# Altium footprint library Connector_Phoenix_GMSTB.PcbLib: 88 footprints (part 2 of 6)
Each footprint in its own frame and in the unit in brackets; x right, y up, seen from the top. Pads: shape width x height; smd on the part's side, far side on the other; paste and mask are expansions set on the pad; w line width, h text height; cw(c..) or ccw(c..) is an arc to the next point about the centre after c.
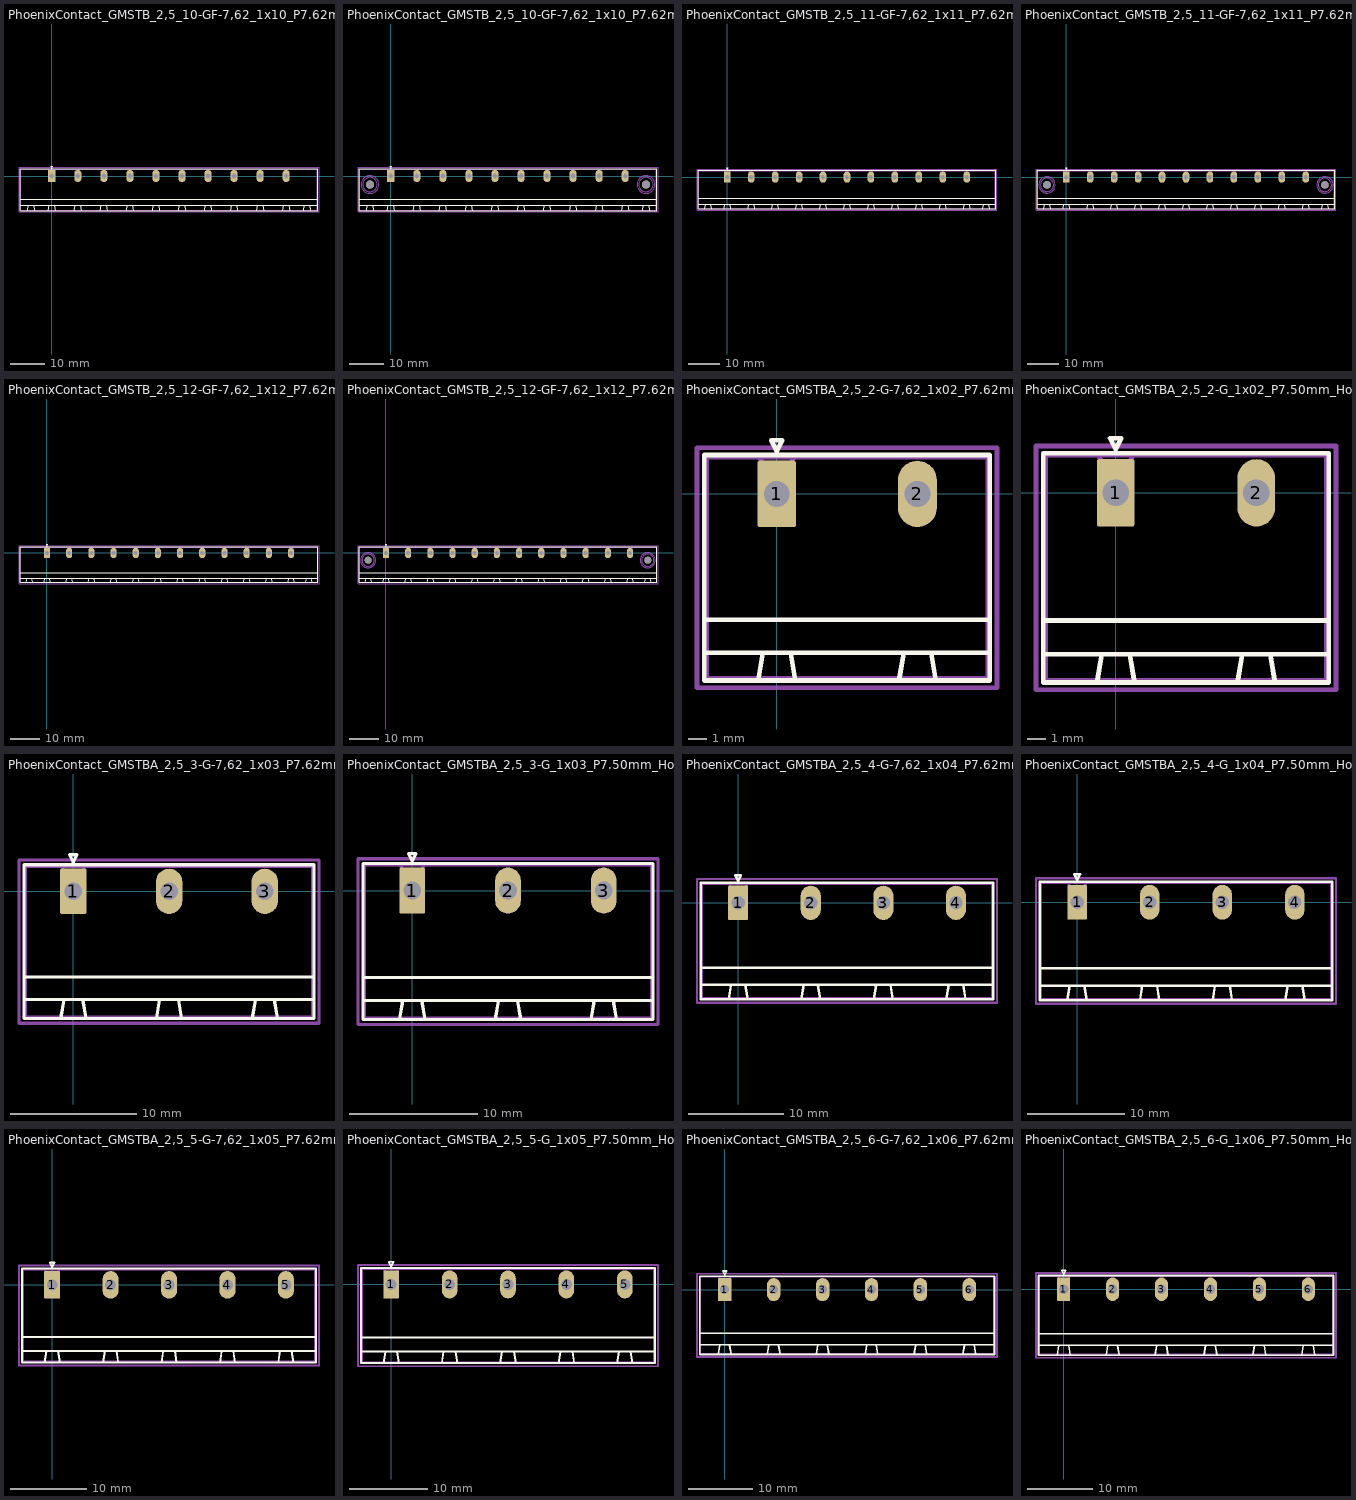
[diagram p1: the footprints below, top view; thin cyan lines are the x and y axes]

## PhoenixContact_GMSTB_2,5_10-GF-7,62_1x10_P7.62mm_Horizontal_ThreadedFlange [mm]
pads (10):
  rrect12% 2.1x3.6 hole 1.4: 1(0,0)
  rrect100% 2.1x3.6 hole 1.4: 2(7.62,0) 3(15.24,0) 4(22.86,0) 5(30.48,0) 6(38.1,0) 7(45.72,0) 8(53.34,0) 9(60.96,0) 10(68.58,0)
F.SilkS:
  lines w0.254: -9.21,-10.11 77.79,-10.11 77.79,2.11 -9.21,2.11 -9.21,-10.11 ; -9.21,-8.61 77.79,-8.61 77.79,-6.81 -9.21,-6.81 -9.21,-8.61 ; -7.1,-10.11 -6.85,-8.61 -5.35,-8.61 -5.1,-10.11 -7.1,-10.11 ; -1,-10.11 -0.75,-8.61 0.75,-8.61 1,-10.11 -1,-10.11 ; -0.3,2.91 0,2.31 0.3,2.91 -0.3,2.91 ; 6.62,-10.11 6.87,-8.61 8.37,-8.61 8.62,-10.11 6.62,-10.11 ; 14.24,-10.11 14.49,-8.61 15.99,-8.61 16.24,-10.11 14.24,-10.11 ; 21.86,-10.11 22.11,-8.61 23.61,-8.61 23.86,-10.11 21.86,-10.11 ; 29.48,-10.11 29.73,-8.61 31.23,-8.61 31.48,-10.11 29.48,-10.11 ; 37.1,-10.11 37.35,-8.61 38.85,-8.61 39.1,-10.11 37.1,-10.11 ; 44.72,-10.11 44.97,-8.61 46.47,-8.61 46.72,-10.11 44.72,-10.11 ; 52.34,-10.11 52.59,-8.61 54.09,-8.61 54.34,-10.11 52.34,-10.11 ; 59.96,-10.11 60.21,-8.61 61.71,-8.61 61.96,-10.11 59.96,-10.11 ; 67.58,-10.11 67.83,-8.61 69.33,-8.61 69.58,-10.11 67.58,-10.11 ; 73.68,-10.11 73.93,-8.61 75.43,-8.61 75.68,-10.11 73.68,-10.11
Top Assembly:
  lines w0.254: -0.95,2 0,0.5 0.95,2 ; -9.1,-10 77.68,-10 77.68,2 -9.1,2 -9.1,-10
  text "'.Designator'" at 30.243,0.46 h1
Top Courtyard:
  lines w0.254: -9.6,-10.5 78.19,-10.5 78.19,2.5 -9.6,2.5 -9.6,-10.5
Top Designator:
  text ".Designator" at 26.677,-4.303 h1.52

## PhoenixContact_GMSTB_2,5_10-GF-7,62_1x10_P7.62mm_Horizontal_ThreadedFlange_MountHole [mm]
pads (12):
  rrect12% 2.1x3.6 hole 1.4: 1(0,0)
  rrect100% 2.1x3.6 hole 1.4: 2(7.62,0) 3(15.24,0) 4(22.86,0) 5(30.48,0) 6(38.1,0) 7(45.72,0) 8(53.34,0) 9(60.96,0) 10(68.58,0)
  round 2.4 hole 2.4: Un1(-6.1,-2.5) Un2(74.68,-2.5)
F.SilkS:
  lines w0.254: -9.21,-10.11 77.79,-10.11 77.79,2.11 -9.21,2.11 -9.21,-10.11 ; -9.21,-8.61 77.79,-8.61 77.79,-6.81 -9.21,-6.81 -9.21,-8.61 ; -7.1,-10.11 -6.85,-8.61 -5.35,-8.61 -5.1,-10.11 -7.1,-10.11 ; -1,-10.11 -0.75,-8.61 0.75,-8.61 1,-10.11 -1,-10.11 ; -0.3,2.91 0,2.31 0.3,2.91 -0.3,2.91 ; 6.62,-10.11 6.87,-8.61 8.37,-8.61 8.62,-10.11 6.62,-10.11 ; 14.24,-10.11 14.49,-8.61 15.99,-8.61 16.24,-10.11 14.24,-10.11 ; 21.86,-10.11 22.11,-8.61 23.61,-8.61 23.86,-10.11 21.86,-10.11 ; 29.48,-10.11 29.73,-8.61 31.23,-8.61 31.48,-10.11 29.48,-10.11 ; 37.1,-10.11 37.35,-8.61 38.85,-8.61 39.1,-10.11 37.1,-10.11 ; 44.72,-10.11 44.97,-8.61 46.47,-8.61 46.72,-10.11 44.72,-10.11 ; 52.34,-10.11 52.59,-8.61 54.09,-8.61 54.34,-10.11 52.34,-10.11 ; 59.96,-10.11 60.21,-8.61 61.71,-8.61 61.96,-10.11 59.96,-10.11 ; 67.58,-10.11 67.83,-8.61 69.33,-8.61 69.58,-10.11 67.58,-10.11 ; 73.68,-10.11 73.93,-8.61 75.43,-8.61 75.68,-10.11 73.68,-10.11
B.SilkS:
  circle w0.254: c74.68,-2.5 r2.21
  circle w0.254: c-6.1,-2.5 r2.21
Top Assembly:
  lines w0.254: -0.95,2 0,0.5 0.95,2 ; -9.1,-10 77.68,-10 77.68,2 -9.1,2 -9.1,-10
  text "'.Designator'" at 30.243,0.46 h1
Bottom Assembly:
  circle w0.254: c74.68,-2.5 r2.1
  circle w0.254: c-6.1,-2.5 r2.1
Top Courtyard:
  lines w0.254: -9.6,-10.5 78.19,-10.5 78.19,2.5 -9.6,2.5 -9.6,-10.5
Bottom Courtyard:
  circle w0.254: c74.68,-2.5 r2.6
  circle w0.254: c-6.1,-2.5 r2.6
Top Designator:
  text ".Designator" at 26.677,-4.303 h1.52

## PhoenixContact_GMSTB_2,5_11-GF-7,62_1x11_P7.62mm_Horizontal_ThreadedFlange [mm]
pads (11):
  rrect12% 2.1x3.6 hole 1.4: 1(0,0)
  rrect100% 2.1x3.6 hole 1.4: 2(7.62,0) 3(15.24,0) 4(22.86,0) 5(30.48,0) 6(38.1,0) 7(45.72,0) 8(53.34,0) 9(60.96,0) 10(68.58,0) 11(76.2,0)
F.SilkS:
  lines w0.254: -9.21,-10.11 85.41,-10.11 85.41,2.11 -9.21,2.11 -9.21,-10.11 ; -9.21,-8.61 85.41,-8.61 85.41,-6.81 -9.21,-6.81 -9.21,-8.61 ; -7.1,-10.11 -6.85,-8.61 -5.35,-8.61 -5.1,-10.11 -7.1,-10.11 ; -1,-10.11 -0.75,-8.61 0.75,-8.61 1,-10.11 -1,-10.11 ; -0.3,2.91 0,2.31 0.3,2.91 -0.3,2.91 ; 6.62,-10.11 6.87,-8.61 8.37,-8.61 8.62,-10.11 6.62,-10.11 ; 14.24,-10.11 14.49,-8.61 15.99,-8.61 16.24,-10.11 14.24,-10.11 ; 21.86,-10.11 22.11,-8.61 23.61,-8.61 23.86,-10.11 21.86,-10.11 ; 29.48,-10.11 29.73,-8.61 31.23,-8.61 31.48,-10.11 29.48,-10.11 ; 37.1,-10.11 37.35,-8.61 38.85,-8.61 39.1,-10.11 37.1,-10.11 ; 44.72,-10.11 44.97,-8.61 46.47,-8.61 46.72,-10.11 44.72,-10.11 ; 52.34,-10.11 52.59,-8.61 54.09,-8.61 54.34,-10.11 52.34,-10.11 ; 59.96,-10.11 60.21,-8.61 61.71,-8.61 61.96,-10.11 59.96,-10.11 ; 67.58,-10.11 67.83,-8.61 69.33,-8.61 69.58,-10.11 67.58,-10.11 ; 75.2,-10.11 75.45,-8.61 76.95,-8.61 77.2,-10.11 75.2,-10.11 ; 81.3,-10.11 81.55,-8.61 83.05,-8.61 83.3,-10.11 81.3,-10.11
Top Assembly:
  lines w0.254: -0.95,2 0,0.5 0.95,2 ; -9.1,-10 85.3,-10 85.3,2 -9.1,2 -9.1,-10
  text "'.Designator'" at 34.053,0.46 h1
Top Courtyard:
  lines w0.254: -9.6,-10.5 85.81,-10.5 85.81,2.5 -9.6,2.5 -9.6,-10.5
Top Designator:
  text ".Designator" at 30.487,-4.303 h1.52

## PhoenixContact_GMSTB_2,5_11-GF-7,62_1x11_P7.62mm_Horizontal_ThreadedFlange_MountHole [mm]
pads (13):
  rrect12% 2.1x3.6 hole 1.4: 1(0,0)
  rrect100% 2.1x3.6 hole 1.4: 2(7.62,0) 3(15.24,0) 4(22.86,0) 5(30.48,0) 6(38.1,0) 7(45.72,0) 8(53.34,0) 9(60.96,0) 10(68.58,0) 11(76.2,0)
  round 2.4 hole 2.4: Un1(-6.1,-2.5) Un2(82.3,-2.5)
F.SilkS:
  lines w0.254: -9.21,-10.11 85.41,-10.11 85.41,2.11 -9.21,2.11 -9.21,-10.11 ; -9.21,-8.61 85.41,-8.61 85.41,-6.81 -9.21,-6.81 -9.21,-8.61 ; -7.1,-10.11 -6.85,-8.61 -5.35,-8.61 -5.1,-10.11 -7.1,-10.11 ; -1,-10.11 -0.75,-8.61 0.75,-8.61 1,-10.11 -1,-10.11 ; -0.3,2.91 0,2.31 0.3,2.91 -0.3,2.91 ; 6.62,-10.11 6.87,-8.61 8.37,-8.61 8.62,-10.11 6.62,-10.11 ; 14.24,-10.11 14.49,-8.61 15.99,-8.61 16.24,-10.11 14.24,-10.11 ; 21.86,-10.11 22.11,-8.61 23.61,-8.61 23.86,-10.11 21.86,-10.11 ; 29.48,-10.11 29.73,-8.61 31.23,-8.61 31.48,-10.11 29.48,-10.11 ; 37.1,-10.11 37.35,-8.61 38.85,-8.61 39.1,-10.11 37.1,-10.11 ; 44.72,-10.11 44.97,-8.61 46.47,-8.61 46.72,-10.11 44.72,-10.11 ; 52.34,-10.11 52.59,-8.61 54.09,-8.61 54.34,-10.11 52.34,-10.11 ; 59.96,-10.11 60.21,-8.61 61.71,-8.61 61.96,-10.11 59.96,-10.11 ; 67.58,-10.11 67.83,-8.61 69.33,-8.61 69.58,-10.11 67.58,-10.11 ; 75.2,-10.11 75.45,-8.61 76.95,-8.61 77.2,-10.11 75.2,-10.11 ; 81.3,-10.11 81.55,-8.61 83.05,-8.61 83.3,-10.11 81.3,-10.11
B.SilkS:
  circle w0.254: c82.3,-2.5 r2.21
  circle w0.254: c-6.1,-2.5 r2.21
Top Assembly:
  lines w0.254: -0.95,2 0,0.5 0.95,2 ; -9.1,-10 85.3,-10 85.3,2 -9.1,2 -9.1,-10
  text "'.Designator'" at 34.053,0.46 h1
Bottom Assembly:
  circle w0.254: c82.3,-2.5 r2.1
  circle w0.254: c-6.1,-2.5 r2.1
Top Courtyard:
  lines w0.254: -9.6,-10.5 85.81,-10.5 85.81,2.5 -9.6,2.5 -9.6,-10.5
Bottom Courtyard:
  circle w0.254: c82.3,-2.5 r2.6
  circle w0.254: c-6.1,-2.5 r2.6
Top Designator:
  text ".Designator" at 30.487,-4.303 h1.52

## PhoenixContact_GMSTB_2,5_12-GF-7,62_1x12_P7.62mm_Horizontal_ThreadedFlange [mm]
pads (12):
  rrect12% 2.1x3.6 hole 1.4: 1(0,0)
  rrect100% 2.1x3.6 hole 1.4: 2(7.62,0) 3(15.24,0) 4(22.86,0) 5(30.48,0) 6(38.1,0) 7(45.72,0) 8(53.34,0) 9(60.96,0) 10(68.58,0) 11(76.2,0) 12(83.82,0)
F.SilkS:
  lines w0.254: -9.21,-10.11 93.03,-10.11 93.03,2.11 -9.21,2.11 -9.21,-10.11 ; -9.21,-8.61 93.03,-8.61 93.03,-6.81 -9.21,-6.81 -9.21,-8.61 ; -7.1,-10.11 -6.85,-8.61 -5.35,-8.61 -5.1,-10.11 -7.1,-10.11 ; -1,-10.11 -0.75,-8.61 0.75,-8.61 1,-10.11 -1,-10.11 ; -0.3,2.91 0,2.31 0.3,2.91 -0.3,2.91 ; 6.62,-10.11 6.87,-8.61 8.37,-8.61 8.62,-10.11 6.62,-10.11 ; 14.24,-10.11 14.49,-8.61 15.99,-8.61 16.24,-10.11 14.24,-10.11 ; 21.86,-10.11 22.11,-8.61 23.61,-8.61 23.86,-10.11 21.86,-10.11 ; 29.48,-10.11 29.73,-8.61 31.23,-8.61 31.48,-10.11 29.48,-10.11 ; 37.1,-10.11 37.35,-8.61 38.85,-8.61 39.1,-10.11 37.1,-10.11 ; 44.72,-10.11 44.97,-8.61 46.47,-8.61 46.72,-10.11 44.72,-10.11 ; 52.34,-10.11 52.59,-8.61 54.09,-8.61 54.34,-10.11 52.34,-10.11 ; 59.96,-10.11 60.21,-8.61 61.71,-8.61 61.96,-10.11 59.96,-10.11 ; 67.58,-10.11 67.83,-8.61 69.33,-8.61 69.58,-10.11 67.58,-10.11 ; 75.2,-10.11 75.45,-8.61 76.95,-8.61 77.2,-10.11 75.2,-10.11 ; 82.82,-10.11 83.07,-8.61 84.57,-8.61 84.82,-10.11 82.82,-10.11 ; 88.92,-10.11 89.17,-8.61 90.67,-8.61 90.92,-10.11 88.92,-10.11
Top Assembly:
  lines w0.254: -0.95,2 0,0.5 0.95,2 ; -9.1,-10 92.92,-10 92.92,2 -9.1,2 -9.1,-10
  text "'.Designator'" at 37.863,0.46 h1
Top Courtyard:
  lines w0.254: -9.6,-10.5 93.43,-10.5 93.43,2.5 -9.6,2.5 -9.6,-10.5
Top Designator:
  text ".Designator" at 34.297,-4.303 h1.52

## PhoenixContact_GMSTB_2,5_12-GF-7,62_1x12_P7.62mm_Horizontal_ThreadedFlange_MountHole [mm]
pads (14):
  rrect12% 2.1x3.6 hole 1.4: 1(0,0)
  rrect100% 2.1x3.6 hole 1.4: 2(7.62,0) 3(15.24,0) 4(22.86,0) 5(30.48,0) 6(38.1,0) 7(45.72,0) 8(53.34,0) 9(60.96,0) 10(68.58,0) 11(76.2,0) 12(83.82,0)
  round 2.4 hole 2.4: Un1(-6.1,-2.5) Un2(89.92,-2.5)
F.SilkS:
  lines w0.254: -9.21,-10.11 93.03,-10.11 93.03,2.11 -9.21,2.11 -9.21,-10.11 ; -9.21,-8.61 93.03,-8.61 93.03,-6.81 -9.21,-6.81 -9.21,-8.61 ; -7.1,-10.11 -6.85,-8.61 -5.35,-8.61 -5.1,-10.11 -7.1,-10.11 ; -1,-10.11 -0.75,-8.61 0.75,-8.61 1,-10.11 -1,-10.11 ; -0.3,2.91 0,2.31 0.3,2.91 -0.3,2.91 ; 6.62,-10.11 6.87,-8.61 8.37,-8.61 8.62,-10.11 6.62,-10.11 ; 14.24,-10.11 14.49,-8.61 15.99,-8.61 16.24,-10.11 14.24,-10.11 ; 21.86,-10.11 22.11,-8.61 23.61,-8.61 23.86,-10.11 21.86,-10.11 ; 29.48,-10.11 29.73,-8.61 31.23,-8.61 31.48,-10.11 29.48,-10.11 ; 37.1,-10.11 37.35,-8.61 38.85,-8.61 39.1,-10.11 37.1,-10.11 ; 44.72,-10.11 44.97,-8.61 46.47,-8.61 46.72,-10.11 44.72,-10.11 ; 52.34,-10.11 52.59,-8.61 54.09,-8.61 54.34,-10.11 52.34,-10.11 ; 59.96,-10.11 60.21,-8.61 61.71,-8.61 61.96,-10.11 59.96,-10.11 ; 67.58,-10.11 67.83,-8.61 69.33,-8.61 69.58,-10.11 67.58,-10.11 ; 75.2,-10.11 75.45,-8.61 76.95,-8.61 77.2,-10.11 75.2,-10.11 ; 82.82,-10.11 83.07,-8.61 84.57,-8.61 84.82,-10.11 82.82,-10.11 ; 88.92,-10.11 89.17,-8.61 90.67,-8.61 90.92,-10.11 88.92,-10.11
B.SilkS:
  circle w0.254: c89.92,-2.5 r2.21
  circle w0.254: c-6.1,-2.5 r2.21
Top Assembly:
  lines w0.254: -0.95,2 0,0.5 0.95,2 ; -9.1,-10 92.92,-10 92.92,2 -9.1,2 -9.1,-10
  text "'.Designator'" at 37.863,0.46 h1
Bottom Assembly:
  circle w0.254: c89.92,-2.5 r2.1
  circle w0.254: c-6.1,-2.5 r2.1
Top Courtyard:
  lines w0.254: -9.6,-10.5 93.43,-10.5 93.43,2.5 -9.6,2.5 -9.6,-10.5
Bottom Courtyard:
  circle w0.254: c89.92,-2.5 r2.6
  circle w0.254: c-6.1,-2.5 r2.6
Top Designator:
  text ".Designator" at 34.297,-4.303 h1.52

## PhoenixContact_GMSTBA_2,5_2-G-7,62_1x02_P7.62mm_Horizontal [mm]
pads (2):
  rrect12% 2.1x3.6 hole 1.4: 1(0,0)
  rrect100% 2.1x3.6 hole 1.4: 2(7.62,0)
F.SilkS:
  lines w0.254: -3.92,-10.11 11.54,-10.11 11.54,2.11 -3.92,2.11 -3.92,-10.11 ; -3.92,-8.61 11.54,-8.61 11.54,-6.81 -3.92,-6.81 -3.92,-8.61 ; -1,-10.11 -0.75,-8.61 0.75,-8.61 1,-10.11 -1,-10.11 ; -0.3,2.91 0,2.31 0.3,2.91 -0.3,2.91 ; 6.62,-10.11 6.87,-8.61 8.37,-8.61 8.62,-10.11 6.62,-10.11
Top Assembly:
  lines w0.254: -0.95,2 0,0.5 0.95,2 ; -3.81,-10 11.43,-10 11.43,2 -3.81,2 -3.81,-10
  text "'.Designator'" at -0.237,0.46 h1
Top Courtyard:
  lines w0.254: -4.32,-10.5 11.93,-10.5 11.93,2.5 -4.32,2.5 -4.32,-10.5
Top Designator:
  text ".Designator" at -3.813,-4.303 h1.52

## PhoenixContact_GMSTBA_2,5_2-G_1x02_P7.50mm_Horizontal [mm]
pads (2):
  rrect12% 2x3.6 hole 1.4: 1(0,0)
  rrect100% 2x3.6 hole 1.4: 2(7.5,0)
F.SilkS:
  lines w0.254: -3.86,-10.11 11.36,-10.11 11.36,2.11 -3.86,2.11 -3.86,-10.11 ; -3.86,-8.61 11.36,-8.61 11.36,-6.81 -3.86,-6.81 -3.86,-8.61 ; -1,-10.11 -0.75,-8.61 0.75,-8.61 1,-10.11 -1,-10.11 ; -0.3,2.91 0,2.31 0.3,2.91 -0.3,2.91 ; 6.5,-10.11 6.75,-8.61 8.25,-8.61 8.5,-10.11 6.5,-10.11
Top Assembly:
  lines w0.254: -0.95,2 0,0.5 0.95,2 ; -3.75,-10 11.25,-10 11.25,2 -3.75,2 -3.75,-10
  text "'.Designator'" at -0.297,0.46 h1
Top Courtyard:
  lines w0.254: -4.25,-10.5 11.75,-10.5 11.75,2.5 -4.25,2.5 -4.25,-10.5
Top Designator:
  text ".Designator" at -3.868,-4.303 h1.52

## PhoenixContact_GMSTBA_2,5_3-G-7,62_1x03_P7.62mm_Horizontal [mm]
pads (3):
  rrect12% 2.1x3.6 hole 1.4: 1(0,0)
  rrect100% 2.1x3.6 hole 1.4: 2(7.62,0) 3(15.24,0)
F.SilkS:
  lines w0.254: -3.92,-10.11 19.16,-10.11 19.16,2.11 -3.92,2.11 -3.92,-10.11 ; -3.92,-8.61 19.16,-8.61 19.16,-6.81 -3.92,-6.81 -3.92,-8.61 ; -1,-10.11 -0.75,-8.61 0.75,-8.61 1,-10.11 -1,-10.11 ; -0.3,2.91 0,2.31 0.3,2.91 -0.3,2.91 ; 6.62,-10.11 6.87,-8.61 8.37,-8.61 8.62,-10.11 6.62,-10.11 ; 14.24,-10.11 14.49,-8.61 15.99,-8.61 16.24,-10.11 14.24,-10.11
Top Assembly:
  lines w0.254: -0.95,2 0,0.5 0.95,2 ; -3.81,-10 19.05,-10 19.05,2 -3.81,2 -3.81,-10
  text "'.Designator'" at 3.573,0.46 h1
Top Courtyard:
  lines w0.254: -4.32,-10.5 19.55,-10.5 19.55,2.5 -4.32,2.5 -4.32,-10.5
Top Designator:
  text ".Designator" at -0.003,-4.303 h1.52

## PhoenixContact_GMSTBA_2,5_3-G_1x03_P7.50mm_Horizontal [mm]
pads (3):
  rrect12% 2x3.6 hole 1.4: 1(0,0)
  rrect100% 2x3.6 hole 1.4: 2(7.5,0) 3(15,0)
F.SilkS:
  lines w0.254: -3.86,-10.11 18.86,-10.11 18.86,2.11 -3.86,2.11 -3.86,-10.11 ; -3.86,-8.61 18.86,-8.61 18.86,-6.81 -3.86,-6.81 -3.86,-8.61 ; -1,-10.11 -0.75,-8.61 0.75,-8.61 1,-10.11 -1,-10.11 ; -0.3,2.91 0,2.31 0.3,2.91 -0.3,2.91 ; 6.5,-10.11 6.75,-8.61 8.25,-8.61 8.5,-10.11 6.5,-10.11 ; 14,-10.11 14.25,-8.61 15.75,-8.61 16,-10.11 14,-10.11
Top Assembly:
  lines w0.254: -0.95,2 0,0.5 0.95,2 ; -3.75,-10 18.75,-10 18.75,2 -3.75,2 -3.75,-10
  text "'.Designator'" at 3.453,0.46 h1
Top Courtyard:
  lines w0.254: -4.25,-10.5 19.25,-10.5 19.25,2.5 -4.25,2.5 -4.25,-10.5
Top Designator:
  text ".Designator" at -0.118,-4.303 h1.52

## PhoenixContact_GMSTBA_2,5_4-G-7,62_1x04_P7.62mm_Horizontal [mm]
pads (4):
  rrect12% 2.1x3.6 hole 1.4: 1(0,0)
  rrect100% 2.1x3.6 hole 1.4: 2(7.62,0) 3(15.24,0) 4(22.86,0)
F.SilkS:
  lines w0.254: -3.92,-10.11 26.78,-10.11 26.78,2.11 -3.92,2.11 -3.92,-10.11 ; -3.92,-8.61 26.78,-8.61 26.78,-6.81 -3.92,-6.81 -3.92,-8.61 ; -1,-10.11 -0.75,-8.61 0.75,-8.61 1,-10.11 -1,-10.11 ; -0.3,2.91 0,2.31 0.3,2.91 -0.3,2.91 ; 6.62,-10.11 6.87,-8.61 8.37,-8.61 8.62,-10.11 6.62,-10.11 ; 14.24,-10.11 14.49,-8.61 15.99,-8.61 16.24,-10.11 14.24,-10.11 ; 21.86,-10.11 22.11,-8.61 23.61,-8.61 23.86,-10.11 21.86,-10.11
Top Assembly:
  lines w0.254: -0.95,2 0,0.5 0.95,2 ; -3.81,-10 26.67,-10 26.67,2 -3.81,2 -3.81,-10
  text "'.Designator'" at 7.383,0.46 h1
Top Courtyard:
  lines w0.254: -4.32,-10.5 27.17,-10.5 27.17,2.5 -4.32,2.5 -4.32,-10.5
Top Designator:
  text ".Designator" at 3.807,-4.303 h1.52

## PhoenixContact_GMSTBA_2,5_4-G_1x04_P7.50mm_Horizontal [mm]
pads (4):
  rrect12% 2x3.6 hole 1.4: 1(0,0)
  rrect100% 2x3.6 hole 1.4: 2(7.5,0) 3(15,0) 4(22.5,0)
F.SilkS:
  lines w0.254: -3.86,-10.11 26.36,-10.11 26.36,2.11 -3.86,2.11 -3.86,-10.11 ; -3.86,-8.61 26.36,-8.61 26.36,-6.81 -3.86,-6.81 -3.86,-8.61 ; -1,-10.11 -0.75,-8.61 0.75,-8.61 1,-10.11 -1,-10.11 ; -0.3,2.91 0,2.31 0.3,2.91 -0.3,2.91 ; 6.5,-10.11 6.75,-8.61 8.25,-8.61 8.5,-10.11 6.5,-10.11 ; 14,-10.11 14.25,-8.61 15.75,-8.61 16,-10.11 14,-10.11 ; 21.5,-10.11 21.75,-8.61 23.25,-8.61 23.5,-10.11 21.5,-10.11
Top Assembly:
  lines w0.254: -0.95,2 0,0.5 0.95,2 ; -3.75,-10 26.25,-10 26.25,2 -3.75,2 -3.75,-10
  text "'.Designator'" at 7.203,0.46 h1
Top Courtyard:
  lines w0.254: -4.25,-10.5 26.75,-10.5 26.75,2.5 -4.25,2.5 -4.25,-10.5
Top Designator:
  text ".Designator" at 3.632,-4.303 h1.52

## PhoenixContact_GMSTBA_2,5_5-G-7,62_1x05_P7.62mm_Horizontal [mm]
pads (5):
  rrect12% 2.1x3.6 hole 1.4: 1(0,0)
  rrect100% 2.1x3.6 hole 1.4: 2(7.62,0) 3(15.24,0) 4(22.86,0) 5(30.48,0)
F.SilkS:
  lines w0.254: -3.92,-10.11 34.4,-10.11 34.4,2.11 -3.92,2.11 -3.92,-10.11 ; -3.92,-8.61 34.4,-8.61 34.4,-6.81 -3.92,-6.81 -3.92,-8.61 ; -1,-10.11 -0.75,-8.61 0.75,-8.61 1,-10.11 -1,-10.11 ; -0.3,2.91 0,2.31 0.3,2.91 -0.3,2.91 ; 6.62,-10.11 6.87,-8.61 8.37,-8.61 8.62,-10.11 6.62,-10.11 ; 14.24,-10.11 14.49,-8.61 15.99,-8.61 16.24,-10.11 14.24,-10.11 ; 21.86,-10.11 22.11,-8.61 23.61,-8.61 23.86,-10.11 21.86,-10.11 ; 29.48,-10.11 29.73,-8.61 31.23,-8.61 31.48,-10.11 29.48,-10.11
Top Assembly:
  lines w0.254: -0.95,2 0,0.5 0.95,2 ; -3.81,-10 34.29,-10 34.29,2 -3.81,2 -3.81,-10
  text "'.Designator'" at 11.193,0.46 h1
Top Courtyard:
  lines w0.254: -4.32,-10.5 34.79,-10.5 34.79,2.5 -4.32,2.5 -4.32,-10.5
Top Designator:
  text ".Designator" at 7.617,-4.303 h1.52

## PhoenixContact_GMSTBA_2,5_5-G_1x05_P7.50mm_Horizontal [mm]
pads (5):
  rrect12% 2x3.6 hole 1.4: 1(0,0)
  rrect100% 2x3.6 hole 1.4: 2(7.5,0) 3(15,0) 4(22.5,0) 5(30,0)
F.SilkS:
  lines w0.254: -3.86,-10.11 33.86,-10.11 33.86,2.11 -3.86,2.11 -3.86,-10.11 ; -3.86,-8.61 33.86,-8.61 33.86,-6.81 -3.86,-6.81 -3.86,-8.61 ; -1,-10.11 -0.75,-8.61 0.75,-8.61 1,-10.11 -1,-10.11 ; -0.3,2.91 0,2.31 0.3,2.91 -0.3,2.91 ; 6.5,-10.11 6.75,-8.61 8.25,-8.61 8.5,-10.11 6.5,-10.11 ; 14,-10.11 14.25,-8.61 15.75,-8.61 16,-10.11 14,-10.11 ; 21.5,-10.11 21.75,-8.61 23.25,-8.61 23.5,-10.11 21.5,-10.11 ; 29,-10.11 29.25,-8.61 30.75,-8.61 31,-10.11 29,-10.11
Top Assembly:
  lines w0.254: -0.95,2 0,0.5 0.95,2 ; -3.75,-10 33.75,-10 33.75,2 -3.75,2 -3.75,-10
  text "'.Designator'" at 10.953,0.46 h1
Top Courtyard:
  lines w0.254: -4.25,-10.5 34.25,-10.5 34.25,2.5 -4.25,2.5 -4.25,-10.5
Top Designator:
  text ".Designator" at 7.382,-4.303 h1.52

## PhoenixContact_GMSTBA_2,5_6-G-7,62_1x06_P7.62mm_Horizontal [mm]
pads (6):
  rrect12% 2.1x3.6 hole 1.4: 1(0,0)
  rrect100% 2.1x3.6 hole 1.4: 2(7.62,0) 3(15.24,0) 4(22.86,0) 5(30.48,0) 6(38.1,0)
F.SilkS:
  lines w0.254: -3.92,-10.11 42.02,-10.11 42.02,2.11 -3.92,2.11 -3.92,-10.11 ; -3.92,-8.61 42.02,-8.61 42.02,-6.81 -3.92,-6.81 -3.92,-8.61 ; -1,-10.11 -0.75,-8.61 0.75,-8.61 1,-10.11 -1,-10.11 ; -0.3,2.91 0,2.31 0.3,2.91 -0.3,2.91 ; 6.62,-10.11 6.87,-8.61 8.37,-8.61 8.62,-10.11 6.62,-10.11 ; 14.24,-10.11 14.49,-8.61 15.99,-8.61 16.24,-10.11 14.24,-10.11 ; 21.86,-10.11 22.11,-8.61 23.61,-8.61 23.86,-10.11 21.86,-10.11 ; 29.48,-10.11 29.73,-8.61 31.23,-8.61 31.48,-10.11 29.48,-10.11 ; 37.1,-10.11 37.35,-8.61 38.85,-8.61 39.1,-10.11 37.1,-10.11
Top Assembly:
  lines w0.254: -0.95,2 0,0.5 0.95,2 ; -3.81,-10 41.91,-10 41.91,2 -3.81,2 -3.81,-10
  text "'.Designator'" at 15.003,0.46 h1
Top Courtyard:
  lines w0.254: -4.32,-10.5 42.41,-10.5 42.41,2.5 -4.32,2.5 -4.32,-10.5
Top Designator:
  text ".Designator" at 11.427,-4.303 h1.52

## PhoenixContact_GMSTBA_2,5_6-G_1x06_P7.50mm_Horizontal [mm]
pads (6):
  rrect12% 2x3.6 hole 1.4: 1(0,0)
  rrect100% 2x3.6 hole 1.4: 2(7.5,0) 3(15,0) 4(22.5,0) 5(30,0) 6(37.5,0)
F.SilkS:
  lines w0.254: -3.86,-10.11 41.36,-10.11 41.36,2.11 -3.86,2.11 -3.86,-10.11 ; -3.86,-8.61 41.36,-8.61 41.36,-6.81 -3.86,-6.81 -3.86,-8.61 ; -1,-10.11 -0.75,-8.61 0.75,-8.61 1,-10.11 -1,-10.11 ; -0.3,2.91 0,2.31 0.3,2.91 -0.3,2.91 ; 6.5,-10.11 6.75,-8.61 8.25,-8.61 8.5,-10.11 6.5,-10.11 ; 14,-10.11 14.25,-8.61 15.75,-8.61 16,-10.11 14,-10.11 ; 21.5,-10.11 21.75,-8.61 23.25,-8.61 23.5,-10.11 21.5,-10.11 ; 29,-10.11 29.25,-8.61 30.75,-8.61 31,-10.11 29,-10.11 ; 36.5,-10.11 36.75,-8.61 38.25,-8.61 38.5,-10.11 36.5,-10.11
Top Assembly:
  lines w0.254: -0.95,2 0,0.5 0.95,2 ; -3.75,-10 41.25,-10 41.25,2 -3.75,2 -3.75,-10
  text "'.Designator'" at 14.703,0.46 h1
Top Courtyard:
  lines w0.254: -4.25,-10.5 41.75,-10.5 41.75,2.5 -4.25,2.5 -4.25,-10.5
Top Designator:
  text ".Designator" at 11.132,-4.303 h1.52